# Altium schematic symbol library CD4026BE.SchLib: 1 symbol
Pins are listed as number, name and electrical type; pins without a type are passive.

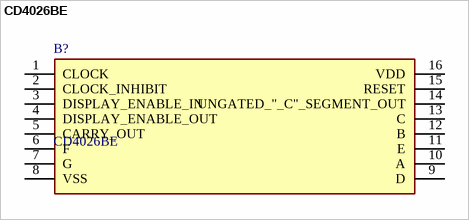
[diagram p0: symbol CD4026BE]

## CD4026BE
designator B?
CD4026BE, 5-stage Decade Counter/Divider, Decade, Up Counter, 3  18 V, 16-Pin PDIP; Manufacturer_Name: Texas Instruments; Geometry.Height: 5.08mm; Manufacturer_Part_Number: CD4026BE; Mouser Part Number: 595-CD4026BE; Mouser Price/Stock: https://www.mouser.co.uk/ProductDetail/Texas-Instruments/CD4026BE?qs=bkMXpVdiF42nXhwyXNpecA%3D%3D; Arrow Part Number: CD4026BE; Arrow Price/Stock: https://www.arrow.com/en/products/cd4026be/texas-instruments?region=nac; Datasheet Link: http://www.ti.com/lit/ds/symlink/cd4026b.pdf
footprint DIP794W53P254L1930H508Q16N
pins: 1 CLOCK, 2 CLOCK_INHIBIT, 3 DISPLAY_ENABLE_IN, 4 DISPLAY_ENABLE_OUT, 5 CARRY_OUT, 6 F, 7 G, 8 VSS, 9 D, 10 A, 11 E, 12 B, 13 C, 14 UNGATED_"_C"_SEGMENT_OUT, 15 RESET, 16 VDD